# EAGLE library part ADS1115 (library LinnesLab-DigitalIC)
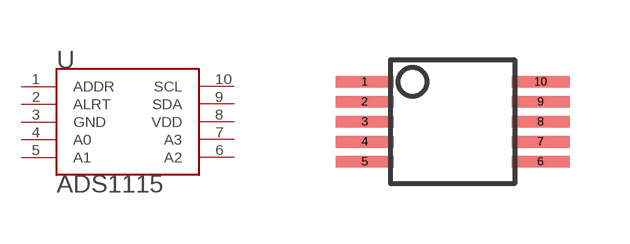
[diagram p10: symbol with the pads of 10-VSSOP; footprint 10-VSSOP]

Designator prefix -

## ADS1115  [10-VSSOP]
1  ADDR
2  ALRT
3  GND
4  A0
5  A1
6  A2
7  A3
8  VDD
9  SDA
10  SCL

## Footprint 10-VSSOP (pad centres in mm)
smd 1.45 x 0.3: 1 -2.2,1; 2 -2.2,0.5; 3 -2.2,0; 4 -2.2,-0.5; 5 -2.2,-1; 6 2.2,-1; 7 2.2,-0.5; 8 2.2,0; 9 2.2,0.5; 10 2.2,1